# EAGLE library part R10-8 (library chuong)
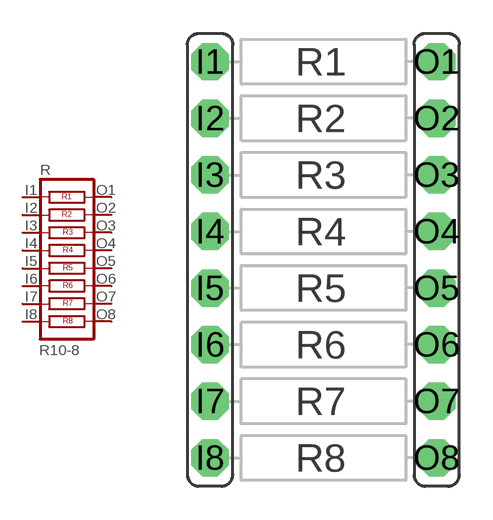
[diagram p12: symbol with the pads of R10-8; footprint R10-8]

Designator prefix R

## R10-8  [R10-8]
I1  I1  pas
I2  I2  pas
I3  I3  pas
I4  I4  pas
I5  I5  pas
I6  I6  pas
I7  I7  pas
I8  I8  pas
O1  O1  pas
O2  O2  pas
O3  O3  pas
O4  O4  pas
O5  O5  pas
O6  O6  pas
O7  O7  pas
O8  O8  pas

## Footprint R10-8 (pad centres in mm)
drill 0.61 pad 1.676 octagon: I1 0,17.78; I2 0,15.24; I3 0,12.7; I4 0,10.16; I5 0,7.62; I6 0,5.08; I7 0,2.54; I8 0,0; O1 10.16,17.78; O2 10.16,15.24; O3 10.16,12.7; O4 10.16,10.16; O5 10.16,7.62; O6 10.16,5.08; O7 10.16,2.54; O8 10.16,0